# Altium footprint library WR-WSP.PcbLib: 5 footprints
Each footprint in its own frame and in the unit in brackets; x right, y up, seen from the top. Pads: shape width x height; smd on the part's side, far side on the other; paste and mask are expansions set on the pad; w line width, h text height; cw(c..) or ccw(c..) is an arc to the next point about the centre after c.
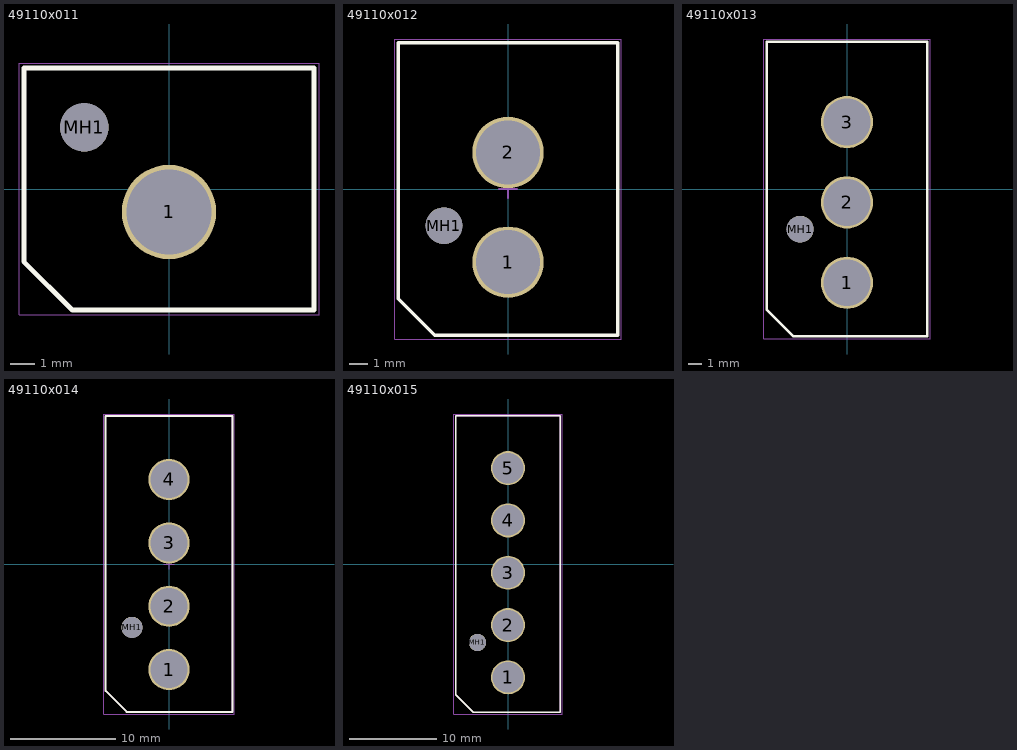
[diagram p0: the footprints below, top view; thin cyan lines are the x and y axes]

## 49110x011 [mm] "REDFIT Crimp SKEDD  Connector, 1P"
height 15
pads (2):
  round 3.9 hole 3.5: 1(0,-0.95)
  round 2 hole 2 unplated: MH1(-3.5,2.55)
Top Overlay:
  lines w0.2: -6,-3 -4,-5 6,-5 6,5 -6,5 -6,-3
Top Assembly:
  lines w0.1: -6,-3 -4,-5 6,-5 6,5 -6,5 -6,-3
Top Designator:
  text ".Designator" at -3.647,-0.357 h1
Top Courtyard:
  lines w0.05: -6.2,-5.2 -6.2,5.2 6.2,5.2 6.2,-5.2 -6.2,-5.2
Top Component Center:
  lines w0.1: -0.5,0 0.5,0 ; 0,-0.5 0,0.5
3D body "49110x011.stp": height 15.2, standoff -2.8, extent -6,-5 6,5

## 49110x012 [mm] "REDFIT Crimp SKEDD  Connector, 2P"
height 15
pads (3):
  round 3.9 hole 3.5: 1(0,-4) 2(0,2)
  round 2 hole 2 unplated: MH1(-3.5,-2)
Top Overlay:
  lines w0.2: -6,-6 -6,8 6,8 6,-8 -4,-8 -6,-6
Top Assembly:
  lines w0.1: -6,-6 -6,8 6,8 6,-8 -4,-8 -6,-6
Top Designator:
  text ".Designator" at -3.647,-0.357 h1
Top Courtyard:
  lines w0.05: -6.2,-8.2 6.2,-8.2 6.2,8.2 -6.2,8.2 -6.2,-8.2
Top Component Center:
  lines w0.1: -0.5,0 0.5,0 ; 0,-0.5 0,0.5
3D body "49110x012.stp": height 15.2, standoff -2.8, extent -6,-8 6,8

## 49110x013 [mm] "REDFIT Crimp SKEDD  Connector, 3P"
height 15
pads (4):
  round 3.9 hole 3.5: 1(0,-7) 2(0,-1) 3(0,5)
  round 2 hole 2 unplated: MH1(-3.5,-3)
Top Overlay:
  lines w0.2: -6,-9 -6,11 6,11 6,-11 -4,-11 -6,-9
Top Assembly:
  lines w0.1: -6,-9 -6,11 6,11 6,-11 -4,-11 -6,-9
Top Designator:
  text ".Designator" at -3.647,-0.357 h1
Top Courtyard:
  lines w0.05: -6.2,-11.2 6.2,-11.2 6.2,11.2 -6.2,11.2 -6.2,-11.2
Top Component Center:
  lines w0.1: -0.5,0 0.5,0 ; 0,-0.5 0,0.5
3D body "49110x013.stp": height 15.2, standoff -2.6, extent -6,-11 6,11

## 49110x014 [mm] "REDFIT Crimp SKEDD  Connector, 4P"
height 15
pads (5):
  round 3.9 hole 3.5: 1(0,-10) 2(0,-4) 3(0,2) 4(0,8)
  round 2 hole 2 unplated: MH1(-3.5,-6)
Top Overlay:
  lines w0.2: -6,-12 -4,-14 6,-14 6,14 -6,14 -6,-12
Top Assembly:
  lines w0.1: -6,-12 -6,14 6,14 6,-14 -4,-14 -6,-12
Top Designator:
  text ".Designator" at -3.647,-0.357 h1
Top Courtyard:
  lines w0.05: -6.2,-14.2 -6.2,14.2 6.2,14.2 6.2,-14.2 -6.2,-14.2
Top Component Center:
  lines w0.1: -0.5,0 0.5,0 ; 0,-0.5 0,0.5
3D body "49110x014.stp": height 15.2, standoff -2.6, extent -6,-14 6,14

## 49110x015 [mm] "REDFIT Crimp SKEDD  Connector, 5P"
height 15
pads (6):
  round 3.9 hole 3.5: 1(0,-13) 2(0,-7) 3(0,-1) 4(0,5) 5(0,11)
  round 2 hole 2 unplated: MH1(-3.5,-9)
Top Overlay:
  lines w0.2: -6,-15 -4,-17 6,-17 6,17 -6,17 -6,-15
Top Assembly:
  lines w0.1: -6,-15 -4,-17 6,-17 6,17 -6,17 -6,-15
Top Designator:
  text ".Designator" at -3.647,-0.357 h1
Top Courtyard:
  lines w0.05: -6.2,-17.2 -6.2,17.2 6.2,17.2 6.2,-17.2 -6.2,-17.2
Top Component Center:
  lines w0.1: -0.5,0 0.5,0 ; 0,-0.5 0,0.5
3D body "49110x015.stp": height 15.2, standoff -2.8, extent -6,-17 6,17